# Altium integrated library MTSW-106-09-G-S-375-RA.IntLib: 1 symbol
Pins are listed as number, name and electrical type; pins without a type are passive.

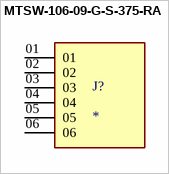
[diagram p0: symbol MTSW-106-09-G-S-375-RA]

## MTSW-106-09-G-S-375-RA
designator J?
Connector Header Through Hole, Right Angle 6 position 0.100 (2.54mm); MF: Samtec Inc.; MP: MTSW-106-09-G-S-375-RA; SnapEDA_Link: https://www.snapeda.com/parts/MTSW-106-09-G-S-375-RA/Samtec/view-part/?ref=snap; Package: None; Value: *; Check_prices: https://www.snapeda.com/parts/MTSW-106-09-G-S-375-RA/Samtec/view-part/?ref=eda
footprint SAMTEC_MTSW-106-09-G-S-375-RA
pins: 01, 02, 03, 04, 05, 06